# EAGLE library part FABO-7PINMULTI_SPI (library FaBo-Connetor)
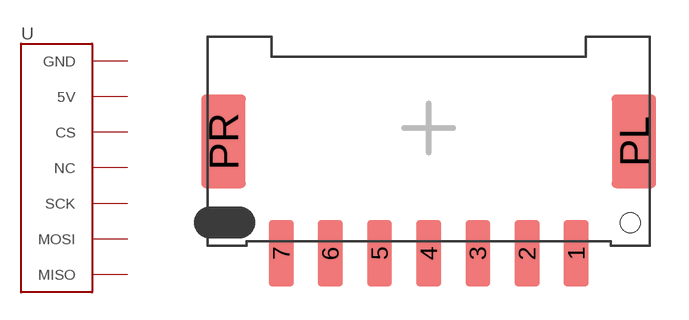
[diagram p22: symbol with the pads of BM07B-PASS-1; footprint BM07B-PASS-1]

Designator prefix -

## FABO-7PINMULTI_SPI  [BM07B-PASS-1]
1  GND
2  5V
3  CS
4  NC
5  SCK
6  MOSI
7  MISO

## Footprint BM07B-PASS-1 (pad centres in mm)
smd 1 x 2.7: 1 6,-5.1; 2 4,-5.1; 3 2,-5.1; 4 0,-5.1; 5 -2,-5.1; 6 -4,-5.1; 7 -6,-5.1
smd 1.8 x 3.8: PL 8.35,-0.55; PR -8.35,-0.55
hole 0.8 at 8.2,-3.85